# EAGLE library part 637101120110 (library WR-RAST)
WR-RAST 5mm Male Horizontal Header Characteristics Pitch: 5mm Operating Temperature: -40 °C up to +110 °C Contact Type: Stamped Insulator Material: PA66 Insulator Flammability Rating: UL94 V-0 Insulator Color: Natural Contact Material: Copper Alloy Contact Plating: Tin Withstanding Voltage: 500 V (AC) Glow-Wire Compliancy Conform to IEC 60335-1 Tested at 750 °C and 850 °C Perform by third party laboratory Suitable for non-attended appliances and many other applications Applications White goods Unattended appliance Electrical Properties IR 16 A Working Voltage 380 V (AC) Withstanding Voltage 500 V (AC) Contact Resistance 20 mΩ General Information Pitch 5 mm Operating Temperature -40 °C up to +110 °C Contact Type Stamped Packaging Properties Packaging Tray Material Properties Insulator Material PA66 Insulator Flammability Rating UL94 V-0 Insulator Color Natural Contact Material Copper Alloy Contact Plating Tin <https://www.we-online.com/components/media/o798408v209%20Multi-WR-RAST5-637101120102.jpg> Details see: www.we-online.com/components/products/WR_RAST_5MM_MALE_HORIZONTAL_HEADER <www.we-online.com/catalog/WR_RAST_5MM_MALE_HORIZONTAL_HEADER/?utm_source=eagle_model&utm_medium=description_link&utm_campaign=eisos_eagle> Created by Ella 2024-10-10 2024 (C) Wurth Elektronik
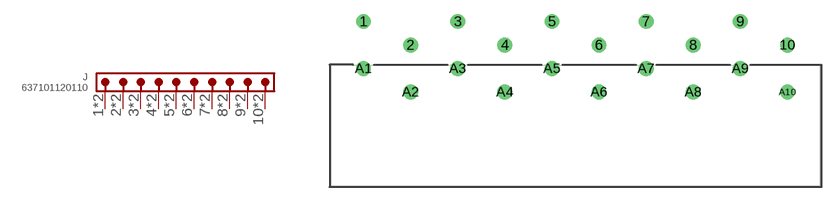
[diagram p11: symbol with the pads of 637101120110; footprint 637101120110]

Designator prefix J

## 637101120110 (CONTACT-RESISTANCE: 20mOhm; DATASHEET-URL: https://www.we-online.com/redexpert/spec/637101120110?ae; INSULATOR-COLOR: Natural; INSULATOR-MATERIAL: PA66; IR: 16A; PACKAGING: Tray; PART-NUMBER: 637101120110; PITCH: 5mm; POLARITY: 10; VALUE: 637101120110; WORKING-VOLTAGE: 380V(AC))  [637101120110]
1  1  pas
2  2  pas
3  3  pas
4  4  pas
5  5  pas
6  6  pas
7  7  pas
8  8  pas
9  9  pas
10  10  pas
A1  1  pas
A2  2  pas
A3  3  pas
A4  4  pas
A5  5  pas
A6  6  pas
A7  7  pas
A8  8  pas
A9  9  pas
A10  10  pas

## Footprint 637101120110 (pad centres in mm)
WR-RAST 5mm Male Horizontal Header
drill 1.05: 1 -22.5,3.75; 2 -17.5,1.25; 3 -12.5,3.75; 4 -7.5,1.25; 5 -2.5,3.75; 6 2.5,1.25; 7 7.5,3.75; 8 12.5,1.25; 9 17.5,3.75; 10 22.5,1.25; A1 -22.5,-1.25; A2 -17.5,-3.75; A3 -12.5,-1.25; A4 -7.5,-3.75; A5 -2.5,-1.25; A6 2.5,-3.75; A7 7.5,-1.25; A8 12.5,-3.75; A9 17.5,-1.25; A10 22.5,-3.75